# Altium footprint library Fuses.PcbLib: 5 footprints
Each footprint in its own frame and in the unit in brackets; x right, y up, seen from the top. Pads: shape width x height; smd on the part's side, far side on the other; paste and mask are expansions set on the pad; w line width, h text height; cw(c..) or ccw(c..) is an arc to the next point about the centre after c.
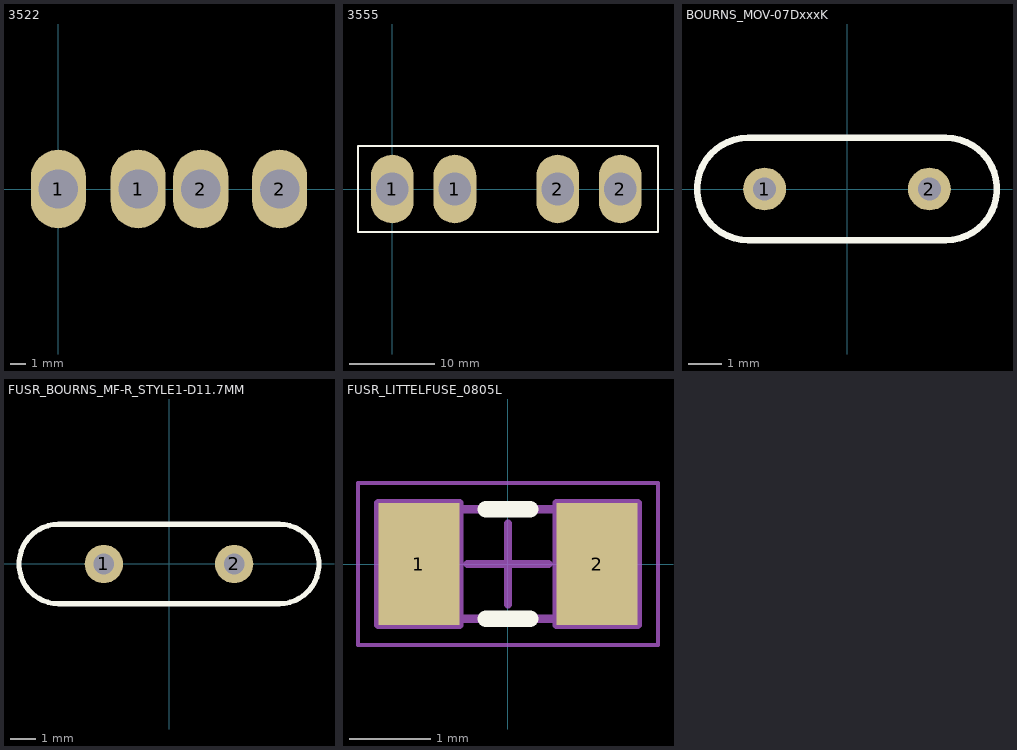
[diagram p0: the footprints below, top view; thin cyan lines are the x and y axes]

## 3522 [mm] "Keystone Fuse Socket"
pads (4):
  oval 3.5x5 hole 2.5: 1(0,0) 1(5.08,0) 2(9.06,0) 2(14.08,0)
3D body "keystone-PN3522.STEP": height 8.1, standoff -3, extent 8.16,-0.687 15.043,2.487
3D body "keystone-PN3522.STEP": height 8.1, standoff -3, extent -0.9,-0.687 5.983,2.487

## 3555 [mm] "Keystone Fuse Socket"
pads (4):
  oval 5x8 hole 3.8: 1(0,0) 1(7.3,0) 2(19.3,0) 2(26.6,0)
Top Overlay:
  lines w0.254: -4,-5 -4,5 31,5 31,-5 -4,-5
3D body "User Library-Keystone_3555_fuse_socket.step": height 11, standoff -4, extent -1.4,-1.2 8.6,3.3
3D body "User Library-Keystone_3555_fuse_socket.step": height 11, standoff -4, extent 17.9,-1.2 27.9,3.3

## BOURNS_MOV-07DxxxK [mm] "7mm radial leaded varistor"
height 11
pads (2):
  round 1.3 hole 0.7: 1(-2.5,0) 2(2.5,0)
Top Overlay:
  lines w0.2: -3,-1.55 cw(c-3,0) -3,1.55 3,1.55 cw(c3,0) 3,-1.55 -3,-1.55
Mechanical 14:
  lines w0.1: -3,-1.55 cw(c-3,0) -3,1.55 3,1.55 cw(c3,0) 3,-1.55 -3,-1.55

## FUSR_BOURNS_MF-R_STYLE1-D11.7MM [mm] "PTC Resettable Fuse, MF-R Series, Case style 1 Diametre 11.7mm"
height 16.7
pads (2):
  round 1.5 hole 0.8: 1(-2.54,0) 2(2.54,0)
Top Overlay:
  lines w0.2: -4.3,-1.55 cw(c-4.3,0) -4.3,1.55 4.3,1.55 cw(c4.3,0) 4.3,-1.55 -4.3,-1.55
Mechanical 14:
  lines w0.1: -4.3,-1.55 cw(c-4.3,0) -4.3,1.55 4.3,1.55 cw(c4.3,0) 4.3,-1.55 -4.3,-1.55
3D body "FUSR_BOURNS_MF-R_STYLE1-D11.7MM.stp": height 16.7, standoff -3.6, extent -5.85,-1.55 5.85,1.55

## FUSR_LITTELFUSE_0805L [mm] "Surface Mount POLY-FUSE® Resettable PTC, 0805L Series"
height 1
pads (2):
  rect 1x1.5 smd: 1(-1.1,0) 2(1.1,0)
Top Overlay:
  lines w0.2: -0.275,-0.675 0.275,-0.675 ; -0.275,0.675 0.275,0.675
Mechanical 8:
  lines w0.1: -1.6,0 -1.1,0 ; -1.1,-0.5 -1.1,0 ; -1.1,0.5 -1.1,0 ; -0.6,0 -1.1,0 ; -0.5,0 0,0 ; 0,-0.5 0,0 ; 0,0.5 0,0 ; 0.5,0 0,0 ; 0.6,0 1.1,0 ; 1.1,-0.5 1.1,0 ; 1.1,0.5 1.1,0 ; 1.6,0 1.1,0 ; -1.6,-0.75 -1.6,0.75 -0.6,0.75 -0.6,-0.75 -1.6,-0.75 ; 0.6,-0.75 0.6,0.75 1.6,0.75 1.6,-0.75 0.6,-0.75
Mechanical 14:
  lines w0.1: -0.675,-0.675 -0.675,0.675 ; -0.675,-0.675 -1.05,-0.675 -1.05,-0.275 ccw(c-1.05,0) -1.05,0.275 -1.05,0.675 -0.675,0.675 ; -0.675,-0.675 0.675,-0.675 ; -0.675,-0.675 -0.675,0.675 ; -0.675,0.675 0.675,0.675 ; 0.675,-0.675 0.675,0.675 ; 0.675,-0.675 1.05,-0.675 1.05,-0.275 cw(c1.05,0) 1.05,0.275 1.05,0.675 0.675,0.675 ; 0.675,-0.675 0.675,0.675
Mechanical 15:
  lines w0.05: -1.85,-1 1.85,-1 1.85,1 -1.85,1 -1.85,-1
3D body "FUSR_LITTELFUSE_0805L010.stp": height 1, standoff 0, extent -1.05,-0.675 1.05,0.675